# EAGLE library part 1054291110 (library microfloat)
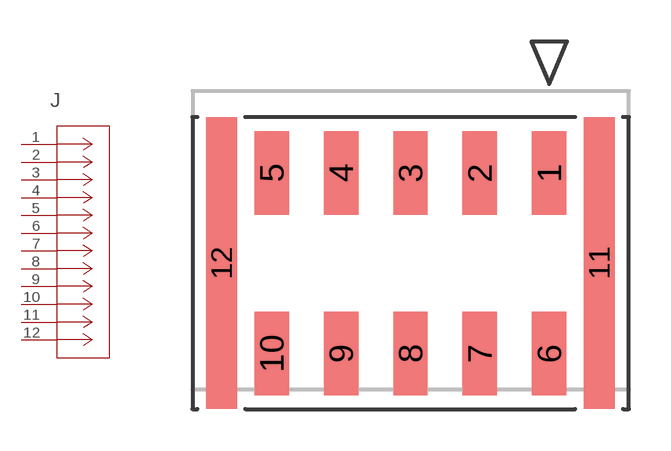
[diagram p11: symbol with the pads of CON_1054291110_MOL; footprint CON_1054291110_MOL]

Designator prefix J

## 1054291110 (BUILT_BY: Molex_Team; COPYRIGHT: Copyright (C) 2018 Accelerated Designs. All rights reserved; MANUFACTURER_PART_NUMBER: 1054291110; SOURCELIBRARY: Add_to_database_2021-02-05; VENDOR: Molex Connector Corporation)  [CON_1054291110_MOL]
1  1  pas
2  2  pas
3  3  pas
4  4  pas
5  5  pas
6  6  pas
7  7  pas
8  8  pas
9  9  pas
10  10  pas
11  11  pas
12  12  pas

## Footprint CON_1054291110_MOL (pad centres in mm)
smd 1.24 x 3: 1 0,0; 2 -2.5,0; 3 -5,0; 4 -7.5,0; 5 -10,0; 6 0,-6.5; 7 -2.5,-6.5; 8 -5,-6.5; 9 -7.5,-6.5; 10 -10,-6.5
smd 1.1 x 10.5: 11 1.805,-3.25; 12 -11.805,-3.25